# Altium footprint library EXP_HW_V3.PcbLib: 103 footprints (part 6 of 7)
Each footprint in its own frame and in the unit in brackets; x right, y up, seen from the top. Pads: shape width x height; smd on the part's side, far side on the other; paste and mask are expansions set on the pad; w line width, h text height; cw(c..) or ccw(c..) is an arc to the next point about the centre after c.
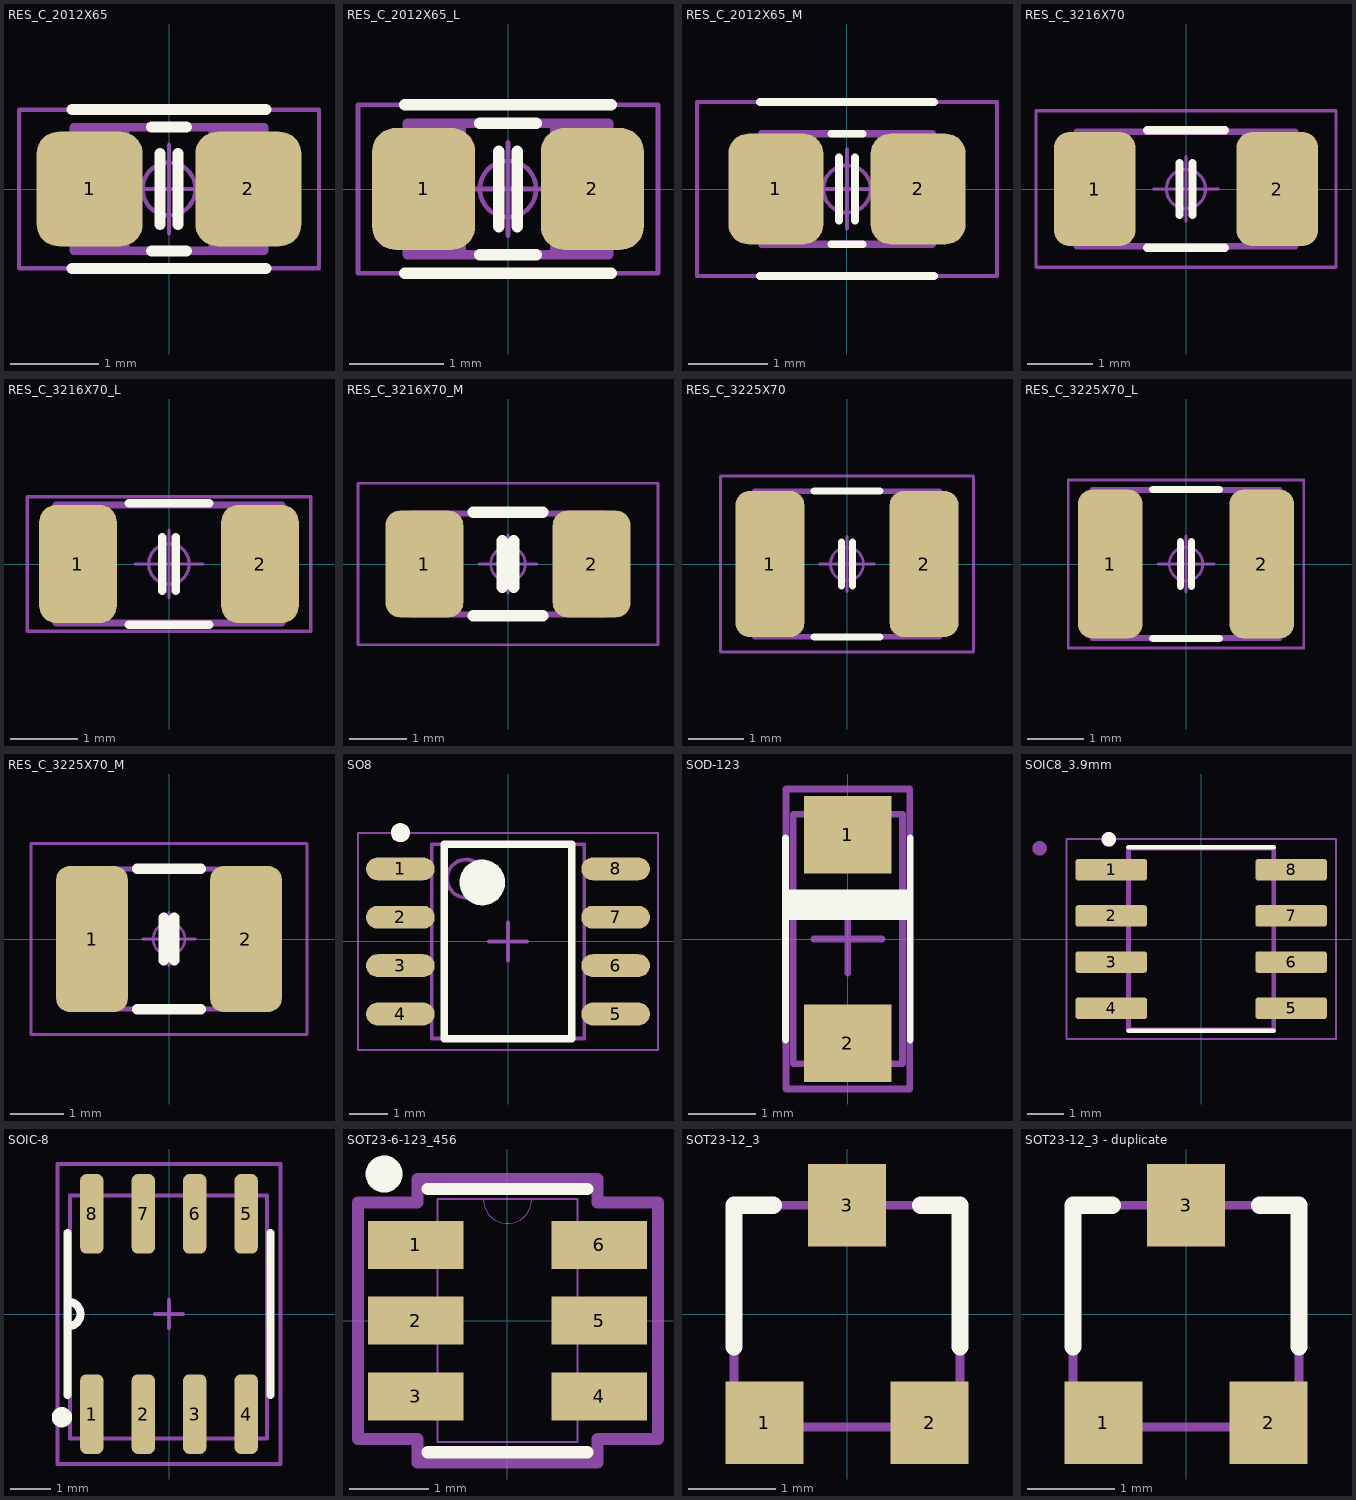
[diagram p5: the footprints below, top view; thin cyan lines are the x and y axes]

## RES_C_2012X65 [mm] "Chip Resistor, 2-Leads, Body 2.00x1.25mm, IPC High Density"
height 0.65
pads (2):
  rrect41% 1.2x1.3 smd: 1(-0.9,0) 2(0.9,0)
Top Overlay:
  lines w0.125: -1.1,-0.9 1.1,-0.9 ; -1.1,0.9 1.1,0.9 ; -0.2,-0.7 0.2,-0.7 ; -0.2,0.7 0.2,0.7 ; -0.1,-0.4 -0.1,0.4 ; 0.1,-0.4 0.1,0.4
Top Assembly:
  lines w0.1: -1.075,-0.7 -1.075,0.7 1.075,0.7 1.075,-0.7 -1.075,-0.7
  text "'.Designator'" at -4.217,-0.663 h1.6
Top Courtyard:
  lines w0.05: -1.7,-0.9 -1.7,0.9 1.7,0.9 1.7,-0.9 -1.7,-0.9
Top Component Outline:
  region: 1.1,0.7 0.45,0.7 0.45,-0.7 1.1,-0.7
  rectangle: -1.1,-0.7 -0.45,0.7
  lines w0.05: -1.1,-0.7 1.1,-0.7 1.1,0.7 -1.1,0.7 -1.1,-0.7
Top Component Center:
  circle w0.05: c0,0 r0.3
  lines w0.05: -0.5,0 0.5,0 ; 0,-0.5 0,0.5
3D body "RESC2012X65.step": height 0.65, standoff 0, extent -1.075,-0.7 1.075,0.7

## RES_C_2012X65_L [mm] "Chip Resistor, 2-Leads, Body 2.00x1.25mm, IPC Medium Density"
height 0.65
pads (2):
  rrect45% 1.1x1.3 smd: 1(-0.9,0) 2(0.9,0)
Top Overlay:
  lines w0.125: -1.1,-0.9 1.1,-0.9 ; -1.1,0.9 1.1,0.9 ; -0.3,-0.7 0.3,-0.7 ; -0.3,0.7 0.3,0.7 ; -0.1,-0.4 -0.1,0.4 ; 0.1,-0.4 0.1,0.4
Top Assembly:
  lines w0.1: -1.075,-0.7 -1.075,0.7 1.075,0.7 1.075,-0.7 -1.075,-0.7
  text "'.Designator'" at -4.217,-0.663 h1.6
Top Courtyard:
  lines w0.05: -1.6,-0.9 -1.6,0.9 1.6,0.9 1.6,-0.9 -1.6,-0.9
Top Component Outline:
  rectangle: -1.1,-0.7 -0.45,0.7
  region: 1.1,0.7 0.45,0.7 0.45,-0.7 1.1,-0.7
  lines w0.05: -1.1,-0.7 -1.1,0.7 1.1,0.7 1.1,-0.7 -1.1,-0.7
Top Component Center:
  circle w0.05: c0,0 r0.3
  lines w0.05: -0.5,0 0.5,0 ; 0,-0.5 0,0.5
3D body "RESC2012X65_L.step": height 0.65, standoff 0, extent -1.075,-0.7 1.075,0.7

## RES_C_2012X65_M [mm] "Chip Resistor, 2-Leads, Body 2.00x1.25mm, IPC Medium Density"
height 0.65
pads (2):
  rrect41% 1.2x1.4 smd: 1(-0.9,0) 2(0.9,0)
Top Overlay:
  lines w0.1: -1.1,-1.1 1.1,-1.1 ; -1.1,1.1 1.1,1.1 ; -0.2,-0.7 0.2,-0.7 ; -0.2,0.7 0.2,0.7 ; -0.1,-0.4 -0.1,0.4 ; 0.1,-0.4 0.1,0.4
Top Assembly:
  lines w0.1: -1.075,-0.7 1.075,-0.7 1.075,0.7 -1.075,0.7 -1.075,-0.7
  text "'.Designator'" at -4.217,-0.663 h1.6
Top Courtyard:
  lines w0.05: -1.9,-1.1 -1.9,1.1 1.9,1.1 1.9,-1.1 -1.9,-1.1
Top Component Outline:
  region: 1.075,0.7 0.425,0.7 0.425,-0.7 1.075,-0.7
  rectangle: -1.075,-0.675 -0.425,0.725
  lines w0.05: -1.075,-0.7 1.075,-0.7 1.075,0.7 -1.075,0.7 -1.075,-0.7
Top Component Center:
  circle w0.05: c0,0 r0.3
  lines w0.05: -0.5,0 0.5,0 ; 0,-0.5 0,0.5
3D body "RESC2012X65_M.step": height 0.65, standoff 0, extent -1.075,-0.7 1.075,0.7

## RES_C_3216X70 [mm] "Chip Resistor, 2-Leads, Body 3.20x1.60mm, IPC Medium Density"
height 0.71
pads (2):
  rrect39% 1.25x1.75 smd: 1(-1.4,0) 2(1.4,0)
Top Overlay:
  lines w0.125: -0.6,-0.9 0.6,-0.9 ; -0.6,0.9 0.6,0.9 ; -0.1,-0.4 -0.1,0.4 ; 0.1,-0.4 0.1,0.4
Top Assembly:
  lines w0.1: -1.675,-0.875 -1.675,0.875 1.675,0.875 1.675,-0.875 -1.675,-0.875
  text "'.Designator'" at -4.217,-0.663 h1.6
Top Courtyard:
  lines w0.05: -2.3,-1.2 -2.3,1.2 2.3,1.2 2.3,-1.2 -2.3,-1.2
Top Component Outline:
  rectangle: -1.675,-0.875 -0.925,0.875
  region: 1.675,0.875 0.925,0.875 0.925,-0.875 1.675,-0.875
  lines w0.05: -1.675,-0.875 -1.675,0.875 1.675,0.875 1.675,-0.875 -1.675,-0.875
Top Component Center:
  circle w0.05: c0,0 r0.3
  lines w0.05: -0.5,0 0.5,0 ; 0,-0.5 0,0.5
3D body "RESC3216X70.step": height 0.71, standoff 0, extent -1.675,-0.875 1.675,0.875

## RES_C_3216X70_L [mm] "Chip Resistor, 2-Leads, Body 3.20x1.60mm, IPC Medium Density"
height 0.71
pads (2):
  rrect43% 1.15x1.75 smd: 1(-1.35,0) 2(1.35,0)
Top Overlay:
  lines w0.125: -0.6,-0.9 0.6,-0.9 ; -0.6,0.9 0.6,0.9 ; -0.1,-0.4 -0.1,0.4 ; 0.1,-0.4 0.1,0.4
Top Assembly:
  lines w0.1: -1.675,-0.875 -1.675,0.875 1.675,0.875 1.675,-0.875 -1.675,-0.875
  text "'.Designator'" at -4.217,-0.663 h1.6
Top Courtyard:
  lines w0.05: -2.1,-1 -2.1,1 2.1,1 2.1,-1 -2.1,-1
Top Component Outline:
  region: 1.675,0.875 0.925,0.875 0.925,-0.875 1.675,-0.875
  rectangle: -1.675,-0.875 -0.925,0.875
  lines w0.05: -1.675,-0.875 -1.675,0.875 1.675,0.875 1.675,-0.875 -1.675,-0.875
Top Component Center:
  circle w0.05: c0,0 r0.3
  lines w0.05: -0.5,0 0.5,0 ; 0,-0.5 0,0.5
3D body "RESC3216X070_L.step": height 0.71, standoff 0, extent -1.675,-0.875 1.675,0.875

## RES_C_3216X70_M [mm] "Chip Resistor, 2-Leads, Body 3.20x1.60mm, IPC Medium Density"
height 0.71
pads (2):
  rrect37% 1.35x1.85 smd: 1(-1.45,0) 2(1.45,0)
Top Overlay:
  lines w0.2: -0.6,-0.9 0.6,-0.9 ; -0.6,0.9 0.6,0.9 ; -0.1,-0.4 -0.1,0.4 ; 0.1,-0.4 0.1,0.4
Top Assembly:
  lines w0.1: -1.675,-0.875 1.675,-0.875 1.675,0.875 -1.675,0.875 -1.675,-0.875
  text "'.Designator'" at -4.217,-0.663 h1.6
Top Courtyard:
  lines w0.05: -2.6,-1.4 -2.6,1.4 2.6,1.4 2.6,-1.4 -2.6,-1.4
Top Component Outline:
  region: 1.675,0.875 0.925,0.875 0.925,-0.875 1.675,-0.875
  rectangle: -1.675,-0.875 -0.925,0.875
  lines w0.05: -1.675,-0.875 -1.675,0.875 1.675,0.875 1.675,-0.875 -1.675,-0.875
Top Component Center:
  circle w0.05: c0,0 r0.3
  lines w0.05: -0.5,0 0.5,0 ; 0,-0.5 0,0.5
3D body "RESC3216X70_M.step": height 0.71, standoff 0, extent -1.675,-0.875 1.675,0.875

## RES_C_3225X70 [mm] "Chip Resistor, 2-Leads, Body 3.20x2.49mm, IPC Medium Density"
height 0.71
pads (2):
  rrect39% 1.25x2.65 smd: 1(-1.4,0) 2(1.4,0)
Top Overlay:
  lines w0.125: -0.6,-1.325 0.6,-1.325 ; -0.6,1.325 0.6,1.325 ; -0.1,-0.4 -0.1,0.4 ; 0.1,-0.4 0.1,0.4
Top Assembly:
  lines w0.1: -1.675,-1.32 1.675,-1.32 1.675,1.32 -1.675,1.32 -1.675,-1.32
  text "'.Designator'" at -4.217,-0.663 h1.6
Top Courtyard:
  lines w0.05: -2.3,-1.6 2.3,-1.6 2.3,1.6 -2.3,1.6 -2.3,-1.6
Top Component Outline:
  region: 1.675,1.315 0.925,1.315 0.925,-1.325 1.675,-1.325
  rectangle: -1.675,-1.315 -0.925,1.325
  lines w0.05: -1.675,-1.325 -1.675,1.325 1.675,1.325 1.675,-1.325 -1.675,-1.325
Top Component Center:
  circle w0.05: c0,0 r0.3
  lines w0.05: -0.5,0 0.5,0 ; 0,-0.5 0,0.5
3D body "RESC3225X70.step": height 0.71, standoff 0, extent -1.675,-1.32 1.675,1.32

## RES_C_3225X70_L [mm] "Chip Resistor, 2-Leads, Body 3.20x2.49mm, IPC Medium Density"
height 0.71
pads (2):
  rrect43% 1.15x2.65 smd: 1(-1.35,0) 2(1.35,0)
Top Overlay:
  lines w0.125: -0.6,-1.325 0.6,-1.325 ; -0.6,1.325 0.6,1.325 ; -0.1,-0.4 -0.1,0.4 ; 0.1,-0.4 0.1,0.4
Top Assembly:
  lines w0.1: -1.675,-1.32 -1.675,1.32 1.675,1.32 1.675,-1.32 -1.675,-1.32
  text "'.Designator'" at -4.217,-0.663 h1.6
Top Courtyard:
  lines w0.05: -2.1,-1.5 -2.1,1.5 2.1,1.5 2.1,-1.5 -2.1,-1.5
Top Component Outline:
  region: 1.675,1.315 0.925,1.315 0.925,-1.325 1.675,-1.325
  rectangle: -1.675,-1.315 -0.925,1.325
  lines w0.05: -1.675,-1.325 -1.675,1.325 1.675,1.325 1.675,-1.325 -1.675,-1.325
Top Component Center:
  circle w0.05: c0,0 r0.3
  lines w0.05: -0.5,0 0.5,0 ; 0,-0.5 0,0.5
3D body "RESC3225X70_L.step": height 0.71, standoff 0, extent -1.675,-1.32 1.675,1.32

## RES_C_3225X70_M [mm] "Chip Resistor, 2-Leads, Body 3.20x2.49mm, IPC Medium Density"
height 0.71
pads (2):
  rrect37% 1.35x2.75 smd: 1(-1.45,0) 2(1.45,0)
Top Overlay:
  lines w0.2: -0.6,-1.325 0.6,-1.325 ; -0.6,1.325 0.6,1.325 ; -0.1,-0.4 -0.1,0.4 ; 0.1,-0.4 0.1,0.4
Top Assembly:
  lines w0.1: -1.675,-1.32 1.675,-1.32 1.675,1.32 -1.675,1.32 -1.675,-1.32
  text "'.Designator'" at -4.217,-0.663 h1.6
Top Courtyard:
  lines w0.05: -2.6,-1.8 2.6,-1.8 2.6,1.8 -2.6,1.8 -2.6,-1.8
Top Component Outline:
  region: 1.675,1.315 0.925,1.315 0.925,-1.325 1.675,-1.325
  rectangle: -1.675,-1.315 -0.925,1.325
  lines w0.05: -1.675,-1.325 -1.675,1.325 1.675,1.325 1.675,-1.325 -1.675,-1.325
Top Component Center:
  circle w0.05: c0,0 r0.3
  lines w0.05: -0.5,0 0.5,0 ; 0,-0.5 0,0.5
3D body "RESC3225X70_M.step": height 0.71, standoff 0, extent -1.675,-1.32 1.675,1.32

## SO8 [mm] "SOIC, 8-Leads, Body 4.9x3.9mm, Pitch 1.27mm, IPC High Density"
pads (8):
  oval 1.8x0.6 smd: 1(-2.825,1.905) 2(-2.825,0.635) 3(-2.825,-0.635) 4(-2.825,-1.905) 5(2.825,-1.905) 6(2.825,-0.635) 7(2.825,0.635) 8(2.825,1.905)
Top Overlay:
  circle w0.25: c-2.825,2.855 r0.125
  circle w0.6: c-0.675,1.55 r0.3
  lines w0.2: -1.675,-2.55 -1.675,2.55 1.675,2.55 1.675,-2.55 -1.675,-2.55
Mechanical 13:
  circle w0.1: c-1.1,1.65 r0.5
  lines w0.1: -2,-2.55 -2,2.55 2,2.55 2,-2.55 -2,-2.55
Mechanical 15:
  lines w0.05: -3.937,-2.85 -3.937,2.85 3.937,2.85 3.937,-2.85 -3.937,-2.85
  lines w0.1: -0.5,0 0.5,0 ; 0,-0.5 0,0.5
3D body "CircuitWorks-SO-8 (PIC12FXXX).step": height 1.6, standoff 0, extent -2.995,-2.45 2.995,2.45

## SOD-123 [mm] "SOD123, 2-Leads, Body 2.6x1.6mm, Pitch 3.05mm, IPC High Density"
height 1.8
pads (2):
  rect 1.3x1.15 smd: 1(0,1.55) 2(0,-1.55)
Top Overlay:
  rectangle: -0.952,0.279 0.914,0.737
  lines w0.1: -0.925,-1.5 -0.925,1.5 ; 0.925,-1.5 0.925,1.5
Top 3D Body:
  lines w0.1: -0.813,-1.854 -0.813,1.854 0.813,1.854 0.813,-1.854 -0.813,-1.854
Top Courtyard:
  lines w0.1: -0.508,0 0.508,0 ; 0,-0.508 0,0.508 ; 0.914,2.228 -0.92,2.228 -0.92,-2.228 0.92,-2.228 0.92,2.228
3D body "SOD123.STEP": height 1.27, standoff 0, extent -0.8,-1.85 0.8,1.85

## SOIC8_3.9mm [mm] "8-SOIC (0.154\", 3.90mm Width)"
pads (8):
  rrect25% 1.97x0.59 smd: 1(-2.475,1.905) 2(-2.475,0.635) 3(-2.475,-0.635) 4(-2.475,-1.905) 5(2.475,-1.905) 6(2.475,-0.635) 7(2.475,0.635) 8(2.475,1.905)
Top Overlay:
  circle w0.2: c-2.54,2.743 r0.1
  lines w0.127: -2,-2.52 2,-2.52 ; -2,2.52 2,2.52
Mechanical 13:
  circle w0.2: c-4.445,2.495 r0.1
  lines w0.127: -2,-2.5 -2,2.5 2,2.5 2,-2.5 -2,-2.5
Mechanical 15:
  lines w0.05: -3.71,-2.75 -3.71,2.75 3.71,2.75 3.71,-2.75 -3.71,-2.75
3D body "step_temp.STEP": height 1.75, standoff 0, extent -3,-2.45 3,2.45

## SOIC-8 [mm] "SOIC-8"
pads (8):
  rrect49% 0.57x1.96 smd: 1(-1.905,-2.47) 2(-0.635,-2.47) 3(0.635,-2.47) 4(1.905,-2.47) 5(1.905,2.47) 6(0.635,2.47) 7(-0.635,2.47) 8(-1.905,2.47)
Top Overlay:
  circle w0.25: c-2.642,-2.546 r0.125
  lines w0.2: -2.5,-2 -2.5,2 ; -2.489,-0.305 ccw(c-2.489,0) -2.489,0.305 ; 2.5,-2 2.5,2
Top 3D Body:
  lines w0.1: -0.35,0 0.35,0 ; 0,-0.35 0,0.35 ; -2.438,-3.076 -2.438,2.924 2.413,2.924 2.413,-3.076 -2.438,-3.076
Top Courtyard:
  lines w0.1: -2.75,-3.7 -2.75,3.7 2.75,3.7 2.75,-3.7 -2.75,-3.7
  text ".Designator" at -2.083,-0.229 h1.2
3D body "BQ32000.stp": height 1.63, standoff 0, extent -2.45,-3.076 2.45,2.924

## SOT23-6-123_456 [mm]
pads (6):
  rect 1.2x0.6 smd paste+0 mask+0: 1(-1.15,0.95) 2(-1.15,0) 3(-1.15,-0.95) 4(1.15,-0.95) 5(1.15,0) 6(1.15,0.95)
Top Overlay:
  circle w0.254: c-1.548,1.839 r0.105
  lines w0.152: -1.003,-1.651 1.003,-1.651 ; -1.003,1.651 1.003,1.651
Mechanical 13:
  lines w0: -0.305,1.524 ccw(c0,1.524) 0.305,1.524
  lines w0.025: -1.499,-1.204 -1.499,-0.696 -0.876,-0.696 -0.876,-1.204 -1.499,-1.204 ; -1.499,-0.254 -1.499,0.254 -0.876,0.254 -0.876,-0.254 -1.499,-0.254 ; -1.499,0.696 -1.499,1.204 -0.876,1.204 -0.876,0.696 -1.499,0.696 ; -0.876,-1.524 0.876,-1.524 0.876,1.524 -0.876,1.524 -0.876,-1.524 ; 0.876,-1.204 0.876,-0.696 1.499,-0.696 1.499,-1.204 0.876,-1.204 ; 0.876,-0.254 0.876,0.254 1.499,0.254 1.499,-0.254 0.876,-0.254 ; 0.876,0.696 0.876,1.204 1.499,1.204 1.499,0.696 0.876,0.696
Mechanical 15:
  lines w0.152: -1.875,-1.483 -1.875,1.483 -1.13,1.483 -1.13,1.778 1.13,1.778 1.13,1.483 1.889,1.483 1.889,-1.483 1.13,-1.483 1.13,-1.778 -1.13,-1.778 -1.13,-1.483 -1.875,-1.483
3D body "SOT23-6L_STM.step": height 1.45, standoff 0, extent -1.499,-1.524 1.499,1.524

## SOT23-12_3 [mm]
height 1.1
pads (3):
  rect 0.9x0.95 smd: 1(-0.95,-1.25) 2(0.95,-1.25) 3(0,1.25)
Top Overlay:
  lines w0.2: -1.3,-0.375 -1.3,1.25 -0.85,1.25 ; 0.85,1.25 1.3,1.25 1.3,-0.375
Mechanical 7:
  rectangle: -0.3,1.25 0.3,1.5
  region: -0.625,-1.275 -1.225,-1.275 -1.225,-1.525 -0.625,-1.525
  region: 1.225,-1.275 0.625,-1.275 0.625,-1.525 1.225,-1.525
  lines w0.1: -1.3,-1.3 -1.3,1.25 1.3,1.25 1.3,-1.3 -1.3,-1.3
3D body "SW3DPS-SOT-23-DEFAULT.STEP": height 1.06, standoff -0.04, extent -1.524,-1.23 1.476,1.27

## SOT23-12_3 - duplicate [mm]
height 1.1
pads (3):
  rect 0.9x0.95 smd: 1(-0.95,-1.25) 3(0,1.25)
  rect 0.9x0.95 smd mask+0: 2(0.95,-1.25)
Top Overlay:
  lines w0.2: -1.3,-0.375 -1.3,1.25 -0.85,1.25 ; 0.85,1.25 1.3,1.25 1.3,-0.375
Mechanical 7:
  region: 1.225,-1.275 0.625,-1.275 0.625,-1.525 1.225,-1.525
  region: -0.625,-1.275 -1.225,-1.275 -1.225,-1.525 -0.625,-1.525
  rectangle: -0.3,1.25 0.3,1.5
  lines w0.1: -1.3,-1.3 1.3,-1.3 1.3,1.25 -1.3,1.25 -1.3,-1.3
3D body "SW3DPS-SOT-23-DEFAULT.STEP": height 1.06, standoff -0.04, extent -1.524,-1.23 1.476,1.27